# EAGLE library part CD4512 (library logic)
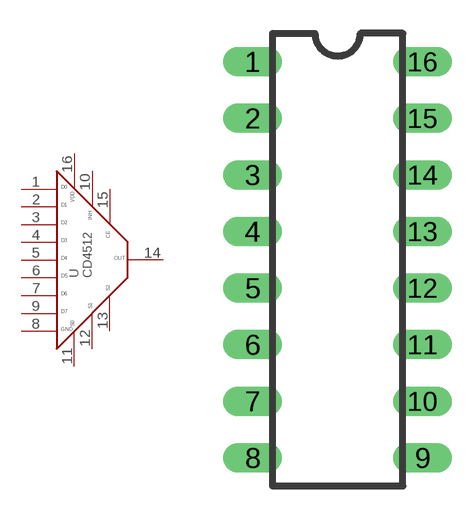
[diagram p1: symbol with the pads of PDIP-16; footprint PDIP-16]

Designator prefix U

## CD4512BE  [PDIP-16]
1  D0
2  D1
3  D2
4  D3
5  D4
6  D5
7  D6
8  GND  pwr
9  D7
10  INHIBIT
11  S0
12  S1
13  S2
14  OUT
15  DISABLE
16  VDD  pwr

## Footprint PDIP-16 (pad centres in mm)
drill 0.813 long: 1 -3.81,8.89; 2 -3.81,6.35; 3 -3.81,3.81; 4 -3.81,1.27; 5 -3.81,-1.27; 6 -3.81,-3.81; 7 -3.81,-6.35; 8 -3.81,-8.89; 9 3.81,-8.89; 10 3.81,-6.35; 11 3.81,-3.81; 12 3.81,-1.27; 13 3.81,1.27; 14 3.81,3.81; 15 3.81,6.35; 16 3.81,8.89